# Altium footprint library PCB - LEADED - SOT-23 - 3PEAK SOT23-5 S5T SOT23-5-A.PcbLib: 1 footprints
Each footprint in its own frame and in the unit in brackets; x right, y up, seen from the top. Pads: shape width x height; smd on the part's side, far side on the other; paste and mask are expansions set on the pad; w line width, h text height; cw(c..) or ccw(c..) is an arc to the next point about the centre after c.
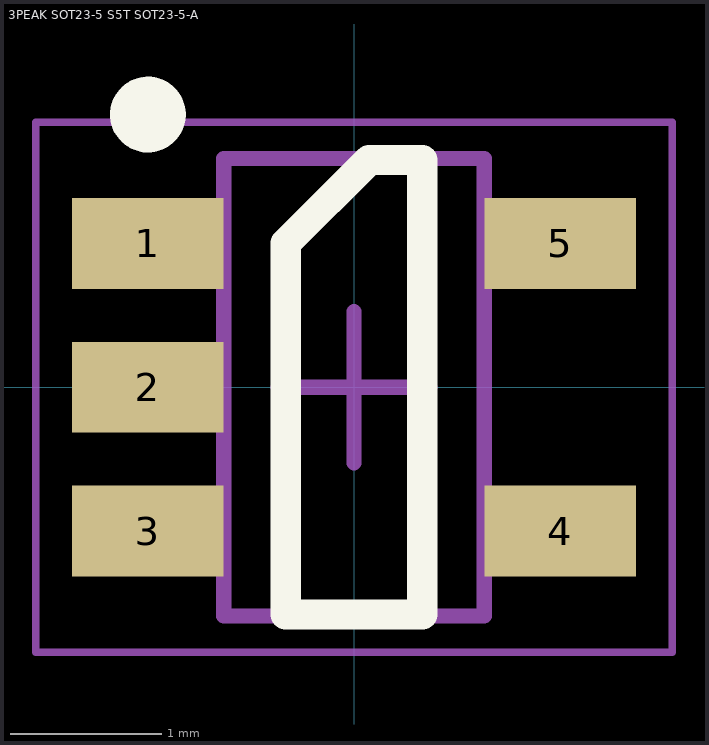
[diagram p0: the footprint, top view; thin cyan lines are the x and y axes]

## 3PEAK SOT23-5 S5T SOT23-5-A [mm] "SOT23, 5-Leads, Body 2.92x2.80mm, Pitch 0.95mm"
height 1.25
pads (5):
  rect 1x0.6 smd: 1(-1.36,0.95) 2(-1.36,0) 3(-1.36,-0.95) 4(1.36,-0.95) 5(1.36,0.95)
Top Overlay:
  circle w0.25: c-1.36,1.8 r0.125
  lines w0.2: -0.45,-1.5 -0.45,0.95 0.1,1.5 0.45,1.5 0.45,-1.5 -0.45,-1.5
Mechanical 13:
  lines w0.1: -0.86,-1.51 -0.86,1.51 0.86,1.51 0.86,-1.51 -0.86,-1.51
Mechanical 15:
  lines w0.05: -2.1,-1.75 -2.1,1.75 2.1,1.75 2.1,-1.75 -2.1,-1.75
  lines w0.1: -0.5,0 0.5,0 ; 0,-0.5 0,0.5
3D body "3PEAK SOT23-5 S5T SOT23-5-A.step": height 1.25, standoff 0, extent -1.5,-1.51 1.5,1.51